# Altium schematic symbol library WE-TCI.SchLib: 44 symbols
Pins are listed as number, name and electrical type; pins without a type are passive.

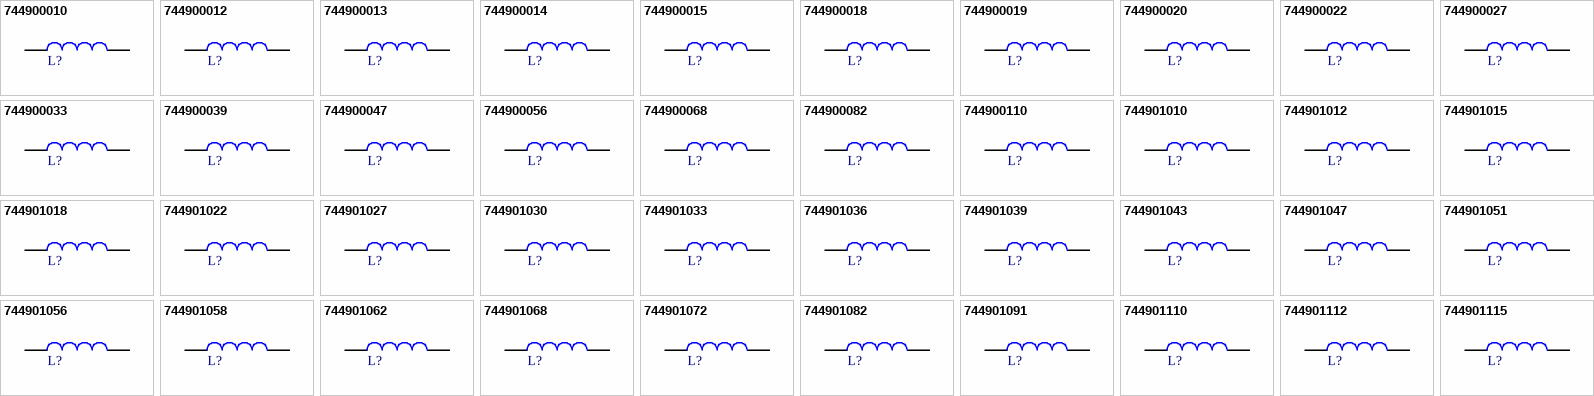
[diagram p0: symbols 744900010 to 744901115]

## 744900010
designator L?, comment 1nH  (value not drawn)
WE-TCI Thinfilm Chip Inductor, size 0201, 1nH, 300mA, 0.3Ω; Manufacturer Part Number: 744900010; Manufacturer: Wurth Elektronik; Case/Size Code: 0201; Inductance Tolerance: +/-0.2nH; Q Factor: 8; Self Resonant Frequency: 9GHz; Category: RF Inductors; Match Code: WE-TCI; ComponentLink1Description: Website Link; ComponentLink1URL: https://www.we-online.com/redexpert/article/744900010?ad; ComponentLink2Description: Datasheet Link; ComponentLink2URL: https://www.we-online.com/redexpert/spec/744900010?ad; Mount: Surface Mount; Operating Temperature Max: 125°C; Operating Temperature Min: -40°C; Packaging: Tape and Reel; Length: 0.6mm; Width: 0.3mm; Height: 0.23mm; DC Resistance Max: 0.3Ω; Inductance: 1nH; Rated Current: 300mA
footprint WE-TCI_0201
simulation model 0201_744900010_1n
pins: 1, 2

## 744900012
designator L?, comment 1.2nH  (value not drawn)
WE-TCI Thinfilm Chip Inductor, size 0201, 1.2nH, 300mA, 0.35Ω; Manufacturer Part Number: 744900012; Manufacturer: Wurth Elektronik; Case/Size Code: 0201; Inductance Tolerance: +/-0.2nH; Q Factor: 8; Self Resonant Frequency: 9GHz; Category: RF Inductors; Match Code: WE-TCI; ComponentLink1Description: Website Link; ComponentLink1URL: https://www.we-online.com/redexpert/article/744900012?ad; ComponentLink2Description: Datasheet Link; ComponentLink2URL: https://www.we-online.com/redexpert/spec/744900012?ad; Mount: Surface Mount; Operating Temperature Max: 125°C; Operating Temperature Min: -40°C; Packaging: Tape and Reel; Length: 0.6mm; Width: 0.3mm; Height: 0.23mm; DC Resistance Max: 0.35Ω; Inductance: 1.2nH; Rated Current: 300mA
footprint WE-TCI_0201
simulation model 0201_744900012_1.2n
pins: 1, 2

## 744900013
designator L?, comment 1.3nH  (value not drawn)
WE-TCI Thinfilm Chip Inductor, size 0201, 1.3nH, 250mA, 0.45Ω; Manufacturer Part Number: 744900013; Manufacturer: Wurth Elektronik; Case/Size Code: 0201; Inductance Tolerance: +/-0.2nH; Q Factor: 8; Self Resonant Frequency: 9GHz; Category: RF Inductors; Match Code: WE-TCI; ComponentLink1Description: Website Link; ComponentLink1URL: https://www.we-online.com/redexpert/article/744900013?ad; ComponentLink2Description: Datasheet Link; ComponentLink2URL: https://www.we-online.com/redexpert/spec/744900013?ad; Mount: Surface Mount; Operating Temperature Max: 125°C; Operating Temperature Min: -40°C; Packaging: Tape and Reel; Length: 0.6mm; Width: 0.3mm; Height: 0.23mm; DC Resistance Max: 0.45Ω; Inductance: 1.3nH; Rated Current: 250mA
footprint WE-TCI_0201
simulation model 0201_744900013_1.3n
pins: 1, 2

## 744900014
designator L?, comment 1.4nH  (value not drawn)
WE-TCI Thinfilm Chip Inductor, size 0201, 1.4nH, 250mA, 0.45Ω; Manufacturer Part Number: 744900014; Manufacturer: Wurth Elektronik; Case/Size Code: 0201; Inductance Tolerance: +/-0.2nH; Q Factor: 8; Self Resonant Frequency: 9GHz; Category: RF Inductors; Match Code: WE-TCI; ComponentLink1Description: Website Link; ComponentLink1URL: https://www.we-online.com/redexpert/article/744900014?ad; ComponentLink2Description: Datasheet Link; ComponentLink2URL: https://www.we-online.com/redexpert/spec/744900014?ad; Mount: Surface Mount; Operating Temperature Max: 125°C; Operating Temperature Min: -40°C; Packaging: Tape and Reel; Length: 0.6mm; Width: 0.3mm; Height: 0.23mm; DC Resistance Max: 0.45Ω; Inductance: 1.4nH; Rated Current: 250mA
footprint WE-TCI_0201
simulation model 0201_744900014_1.4n
pins: 1, 2

## 744900015
designator L?, comment 1.5nH  (value not drawn)
WE-TCI Thinfilm Chip Inductor, size 0201, 1.5nH, 250mA, 0.45Ω; Manufacturer Part Number: 744900015; Manufacturer: Wurth Elektronik; Case/Size Code: 0201; Inductance Tolerance: +/-0.2nH; Q Factor: 8; Self Resonant Frequency: 9GHz; Category: RF Inductors; Match Code: WE-TCI; ComponentLink1Description: Website Link; ComponentLink1URL: https://www.we-online.com/redexpert/article/744900015?ad; ComponentLink2Description: Datasheet Link; ComponentLink2URL: https://www.we-online.com/redexpert/spec/744900015?ad; Mount: Surface Mount; Operating Temperature Max: 125°C; Operating Temperature Min: -40°C; Packaging: Tape and Reel; Length: 0.6mm; Width: 0.3mm; Height: 0.23mm; DC Resistance Max: 0.45Ω; Inductance: 1.5nH; Rated Current: 250mA
footprint WE-TCI_0201
simulation model 0201_744900015_1.5n
pins: 1, 2

## 744900018
designator L?, comment 1.8nH  (value not drawn)
WE-TCI Thinfilm Chip Inductor, size 0201, 1.8nH, 200mA, 0.55Ω; Manufacturer Part Number: 744900018; Manufacturer: Wurth Elektronik; Case/Size Code: 0201; Inductance Tolerance: +/-0.2nH; Q Factor: 8; Self Resonant Frequency: 9GHz; Category: RF Inductors; Match Code: WE-TCI; ComponentLink1Description: Website Link; ComponentLink1URL: https://www.we-online.com/redexpert/article/744900018?ad; ComponentLink2Description: Datasheet Link; ComponentLink2URL: https://www.we-online.com/redexpert/spec/744900018?ad; Mount: Surface Mount; Operating Temperature Max: 125°C; Operating Temperature Min: -40°C; Packaging: Tape and Reel; Length: 0.6mm; Width: 0.3mm; Height: 0.23mm; DC Resistance Max: 0.55Ω; Inductance: 1.8nH; Rated Current: 200mA
footprint WE-TCI_0201
simulation model 0201_744900018_1.8n
pins: 1, 2

## 744900019
designator L?, comment 1.9nH  (value not drawn)
WE-TCI Thinfilm Chip Inductor, size 0201, 1.9nH, 200mA, 0.55Ω; Manufacturer Part Number: 744900019; Manufacturer: Wurth Elektronik; Case/Size Code: 0201; Inductance Tolerance: +/-0.2nH; Q Factor: 8; Self Resonant Frequency: 9GHz; Category: RF Inductors; Match Code: WE-TCI; ComponentLink1Description: Website Link; ComponentLink1URL: https://www.we-online.com/redexpert/article/744900019?ad; ComponentLink2Description: Datasheet Link; ComponentLink2URL: https://www.we-online.com/redexpert/spec/744900019?ad; Mount: Surface Mount; Operating Temperature Max: 125°C; Operating Temperature Min: -40°C; Packaging: Tape and Reel; Length: 0.6mm; Width: 0.3mm; Height: 0.23mm; DC Resistance Max: 0.55Ω; Inductance: 1.9nH; Rated Current: 200mA
footprint WE-TCI_0201
simulation model 0201_744900019_1.9n
pins: 1, 2

## 744900020
designator L?, comment 2nH  (value not drawn)
WE-TCI Thinfilm Chip Inductor, size 0201, 2nH, 200mA, 0.7Ω; Manufacturer Part Number: 744900020; Manufacturer: Wurth Elektronik; Case/Size Code: 0201; Inductance Tolerance: +/-0.2nH; Q Factor: 8; Self Resonant Frequency: 8GHz; Category: RF Inductors; Match Code: WE-TCI; ComponentLink1Description: Website Link; ComponentLink1URL: https://www.we-online.com/redexpert/article/744900020?ad; ComponentLink2Description: Datasheet Link; ComponentLink2URL: https://www.we-online.com/redexpert/spec/744900020?ad; Mount: Surface Mount; Operating Temperature Max: 125°C; Operating Temperature Min: -40°C; Packaging: Tape and Reel; Length: 0.6mm; Width: 0.3mm; Height: 0.23mm; DC Resistance Max: 0.7Ω; Inductance: 2nH; Rated Current: 200mA
footprint WE-TCI_0201
simulation model 0201_744900020_2n
pins: 1, 2

## 744900022
designator L?, comment 2.2nH  (value not drawn)
WE-TCI Thinfilm Chip Inductor, size 0201, 2.2nH, 200mA, 0.7Ω; Manufacturer Part Number: 744900022; Manufacturer: Wurth Elektronik; Case/Size Code: 0201; Inductance Tolerance: +/-0.2nH; Q Factor: 8; Self Resonant Frequency: 8GHz; Category: RF Inductors; Match Code: WE-TCI; ComponentLink1Description: Website Link; ComponentLink1URL: https://www.we-online.com/redexpert/article/744900022?ad; ComponentLink2Description: Datasheet Link; ComponentLink2URL: https://www.we-online.com/redexpert/spec/744900022?ad; Mount: Surface Mount; Operating Temperature Max: 125°C; Operating Temperature Min: -40°C; Packaging: Tape and Reel; Length: 0.6mm; Width: 0.3mm; Height: 0.23mm; DC Resistance Max: 0.7Ω; Inductance: 2.2nH; Rated Current: 200mA
footprint WE-TCI_0201
simulation model 0201_744900022_2.2n
pins: 1, 2

## 744900027
designator L?, comment 2.7nH  (value not drawn)
WE-TCI Thinfilm Chip Inductor, size 0201, 2.7nH, 150mA, 0.8Ω; Manufacturer Part Number: 744900027; Manufacturer: Wurth Elektronik; Case/Size Code: 0201; Inductance Tolerance: +/-0.2nH; Q Factor: 8; Self Resonant Frequency: 8GHz; Category: RF Inductors; Match Code: WE-TCI; ComponentLink1Description: Website Link; ComponentLink1URL: https://www.we-online.com/redexpert/article/744900027?ad; ComponentLink2Description: Datasheet Link; ComponentLink2URL: https://www.we-online.com/redexpert/spec/744900027?ad; Mount: Surface Mount; Operating Temperature Max: 125°C; Operating Temperature Min: -40°C; Packaging: Tape and Reel; Length: 0.6mm; Width: 0.3mm; Height: 0.23mm; DC Resistance Max: 0.8Ω; Inductance: 2.7nH; Rated Current: 150mA
footprint WE-TCI_0201
simulation model 0201_744900027_2.7n
pins: 1, 2

## 744900033
designator L?, comment 3.3nH  (value not drawn)
WE-TCI Thinfilm Chip Inductor, size 0201, 3.3nH, 150mA, 1Ω; Manufacturer Part Number: 744900033; Manufacturer: Wurth Elektronik; Case/Size Code: 0201; Inductance Tolerance: +/-0.2nH; Q Factor: 8; Self Resonant Frequency: 6GHz; Category: RF Inductors; Match Code: WE-TCI; ComponentLink1Description: Website Link; ComponentLink1URL: https://www.we-online.com/redexpert/article/744900033?ad; ComponentLink2Description: Datasheet Link; ComponentLink2URL: https://www.we-online.com/redexpert/spec/744900033?ad; Mount: Surface Mount; Operating Temperature Max: 125°C; Operating Temperature Min: -40°C; Packaging: Tape and Reel; Length: 0.6mm; Width: 0.3mm; Height: 0.23mm; DC Resistance Max: 1Ω; Inductance: 3.3nH; Rated Current: 150mA
footprint WE-TCI_0201
simulation model 0201_744900033_3.3n
pins: 1, 2

## 744900039
designator L?, comment 3.9nH  (value not drawn)
WE-TCI Thinfilm Chip Inductor, size 0201, 3.9nH, 150mA, 1.2Ω; Manufacturer Part Number: 744900039; Manufacturer: Wurth Elektronik; Case/Size Code: 0201; Inductance Tolerance: +/-0.2nH; Q Factor: 8; Self Resonant Frequency: 6GHz; Category: RF Inductors; Match Code: WE-TCI; ComponentLink1Description: Website Link; ComponentLink1URL: https://www.we-online.com/redexpert/article/744900039?ad; ComponentLink2Description: Datasheet Link; ComponentLink2URL: https://www.we-online.com/redexpert/spec/744900039?ad; Mount: Surface Mount; Operating Temperature Max: 125°C; Operating Temperature Min: -40°C; Packaging: Tape and Reel; Length: 0.6mm; Width: 0.3mm; Height: 0.23mm; DC Resistance Max: 1.2Ω; Inductance: 3.9nH; Rated Current: 150mA
footprint WE-TCI_0201
simulation model 0201_744900039_3.9n
pins: 1, 2

## 744900047
designator L?, comment 4.7nH  (value not drawn)
WE-TCI Thinfilm Chip Inductor, size 0201, 4.7nH, 130mA, 1.4Ω; Manufacturer Part Number: 744900047; Manufacturer: Wurth Elektronik; Case/Size Code: 0201; Inductance Tolerance: +/-0.2nH; Q Factor: 8; Self Resonant Frequency: 6GHz; Category: RF Inductors; Match Code: WE-TCI; ComponentLink1Description: Website Link; ComponentLink1URL: https://www.we-online.com/redexpert/article/744900047?ad; ComponentLink2Description: Datasheet Link; ComponentLink2URL: https://www.we-online.com/redexpert/spec/744900047?ad; Mount: Surface Mount; Operating Temperature Max: 125°C; Operating Temperature Min: -40°C; Packaging: Tape and Reel; Length: 0.6mm; Width: 0.3mm; Height: 0.23mm; DC Resistance Max: 1.4Ω; Inductance: 4.7nH; Rated Current: 130mA
footprint WE-TCI_0201
simulation model 0201_744900047_4.7n
pins: 1, 2

## 744900056
designator L?, comment 5.6nH  (value not drawn)
WE-TCI Thinfilm Chip Inductor, size 0201, 5.6nH, 130mA, 1.8Ω; Manufacturer Part Number: 744900056; Manufacturer: Wurth Elektronik; Case/Size Code: 0201; Inductance Tolerance: +/-2%; Q Factor: 8; Self Resonant Frequency: 4GHz; Category: RF Inductors; Match Code: WE-TCI; ComponentLink1Description: Website Link; ComponentLink1URL: https://www.we-online.com/redexpert/article/744900056?ad; ComponentLink2Description: Datasheet Link; ComponentLink2URL: https://www.we-online.com/redexpert/spec/744900056?ad; Mount: Surface Mount; Operating Temperature Max: 125°C; Operating Temperature Min: -40°C; Packaging: Tape and Reel; Length: 0.6mm; Width: 0.3mm; Height: 0.23mm; DC Resistance Max: 1.8Ω; Inductance: 5.6nH; Rated Current: 130mA
footprint WE-TCI_0201
simulation model 0201_744900056_5.6n
pins: 1, 2

## 744900068
designator L?, comment 6.8nH  (value not drawn)
WE-TCI Thinfilm Chip Inductor, size 0201, 6.8nH, 110mA, 2.3Ω; Manufacturer Part Number: 744900068; Manufacturer: Wurth Elektronik; Case/Size Code: 0201; Inductance Tolerance: +/-2%; Q Factor: 8; Self Resonant Frequency: 4GHz; Category: RF Inductors; Match Code: WE-TCI; ComponentLink1Description: Website Link; ComponentLink1URL: https://www.we-online.com/redexpert/article/744900068?ad; ComponentLink2Description: Datasheet Link; ComponentLink2URL: https://www.we-online.com/redexpert/spec/744900068?ad; Mount: Surface Mount; Operating Temperature Max: 125°C; Operating Temperature Min: -40°C; Packaging: Tape and Reel; Length: 0.6mm; Width: 0.3mm; Height: 0.23mm; DC Resistance Max: 2.3Ω; Inductance: 6.8nH; Rated Current: 110mA
footprint WE-TCI_0201
simulation model 0201_744900068_6.8n
pins: 1, 2

## 744900082
designator L?, comment 8.2nH  (value not drawn)
WE-TCI Thinfilm Chip Inductor, size 0201, 8.2nH, 110mA, 3Ω; Manufacturer Part Number: 744900082; Manufacturer: Wurth Elektronik; Case/Size Code: 0201; Inductance Tolerance: +/-2%; Q Factor: 8; Self Resonant Frequency: 3GHz; Category: RF Inductors; Match Code: WE-TCI; ComponentLink1Description: Website Link; ComponentLink1URL: https://www.we-online.com/redexpert/article/744900082?ad; ComponentLink2Description: Datasheet Link; ComponentLink2URL: https://www.we-online.com/redexpert/spec/744900082?ad; Mount: Surface Mount; Operating Temperature Max: 125°C; Operating Temperature Min: -40°C; Packaging: Tape and Reel; Length: 0.6mm; Width: 0.3mm; Height: 0.23mm; DC Resistance Max: 3Ω; Inductance: 8.2nH; Rated Current: 110mA
footprint WE-TCI_0201
simulation model 0201_744900082_8.2n
pins: 1, 2

## 744900110
designator L?, comment 10nH  (value not drawn)
WE-TCI Thinfilm Chip Inductor, size 0201, 10nH, 80mA, 3.5Ω; Manufacturer Part Number: 744900110; Manufacturer: Wurth Elektronik; Case/Size Code: 0201; Inductance Tolerance: +/-0.2%; Q Factor: 8; Self Resonant Frequency: 2GHz; Category: RF Inductors; Match Code: WE-TCI; ComponentLink1Description: Website Link; ComponentLink1URL: https://www.we-online.com/redexpert/article/744900110?ad; ComponentLink2Description: Datasheet Link; ComponentLink2URL: https://www.we-online.com/redexpert/spec/744900110?ad; Mount: Surface Mount; Operating Temperature Max: 125°C; Operating Temperature Min: -40°C; Packaging: Tape and Reel; Length: 0.6mm; Width: 0.3mm; Height: 0.23mm; DC Resistance Max: 3.5Ω; Inductance: 10nH; Rated Current: 80mA
footprint WE-TCI_0201
simulation model 0201_744900110_10n
pins: 1, 2

## 744901010
designator L?, comment 1nH  (value not drawn)
WE-TCI Thinfilm Chip Inductor, size 0402, 1nH, 700mA, 0.1Ω; Manufacturer Part Number: 744901010; Manufacturer: Wurth Elektronik; Case/Size Code: 0402; Inductance Tolerance: +/-0.1nH; Q Factor: 13; Self Resonant Frequency: 12GHz; Category: RF Inductors; Match Code: WE-TCI; ComponentLink1Description: Website Link; ComponentLink1URL: https://www.we-online.com/redexpert/article/744901010?ad; ComponentLink2Description: Datasheet Link; ComponentLink2URL: https://www.we-online.com/redexpert/spec/744901010?ad; Mount: Surface Mount; Operating Temperature Max: 125°C; Operating Temperature Min: -40°C; Packaging: Tape and Reel; Length: 1mm; Width: 0.5mm; Height: 0.32mm; DC Resistance Max: 0.1Ω; Inductance: 1nH; Rated Current: 700mA
footprint WE-TCI_0402
simulation model 0402_744901010_1n
pins: 1, 2

## 744901012
designator L?, comment 1.2nH  (value not drawn)
WE-TCI Thinfilm Chip Inductor, size 0402, 1.2nH, 700mA, 0.1Ω; Manufacturer Part Number: 744901012; Manufacturer: Wurth Elektronik; Case/Size Code: 0402; Inductance Tolerance: +/-0.1nH; Q Factor: 13; Self Resonant Frequency: 12GHz; Category: RF Inductors; Match Code: WE-TCI; ComponentLink1Description: Website Link; ComponentLink1URL: https://www.we-online.com/redexpert/article/744901012?ad; ComponentLink2Description: Datasheet Link; ComponentLink2URL: https://www.we-online.com/redexpert/spec/744901012?ad; Mount: Surface Mount; Operating Temperature Max: 125°C; Operating Temperature Min: -40°C; Packaging: Tape and Reel; Length: 1mm; Width: 0.5mm; Height: 0.32mm; DC Resistance Max: 0.1Ω; Inductance: 1.2nH; Rated Current: 700mA
footprint WE-TCI_0402
simulation model 0402_744901012_1.2n
pins: 1, 2

## 744901015
designator L?, comment 1.5nH  (value not drawn)
WE-TCI Thinfilm Chip Inductor, size 0402, 1.5nH, 700mA, 0.2Ω; Manufacturer Part Number: 744901015; Manufacturer: Wurth Elektronik; Case/Size Code: 0402; Inductance Tolerance: +/-0.1nH; Q Factor: 13; Self Resonant Frequency: 10GHz; Category: RF Inductors; Match Code: WE-TCI; ComponentLink1Description: Website Link; ComponentLink1URL: https://www.we-online.com/redexpert/article/744901015?ad; ComponentLink2Description: Datasheet Link; ComponentLink2URL: https://www.we-online.com/redexpert/spec/744901015?ad; Mount: Surface Mount; Operating Temperature Max: 125°C; Operating Temperature Min: -40°C; Packaging: Tape and Reel; Length: 1mm; Width: 0.5mm; Height: 0.32mm; DC Resistance Max: 0.2Ω; Inductance: 1.5nH; Rated Current: 700mA
footprint WE-TCI_0402
simulation model 0402_744901015_1.5n
pins: 1, 2

## 744901018
designator L?, comment 1.8nH  (value not drawn)
WE-TCI Thinfilm Chip Inductor, size 0402, 1.8nH, 560mA, 0.2Ω; Manufacturer Part Number: 744901018; Manufacturer: Wurth Elektronik; Case/Size Code: 0402; Inductance Tolerance: +/-0.1nH; Q Factor: 13; Self Resonant Frequency: 10GHz; Category: RF Inductors; Match Code: WE-TCI; ComponentLink1Description: Website Link; ComponentLink1URL: https://www.we-online.com/redexpert/article/744901018?ad; ComponentLink2Description: Datasheet Link; ComponentLink2URL: https://www.we-online.com/redexpert/spec/744901018?ad; Mount: Surface Mount; Operating Temperature Max: 125°C; Operating Temperature Min: -40°C; Packaging: Tape and Reel; Length: 1mm; Width: 0.5mm; Height: 0.32mm; DC Resistance Max: 0.2Ω; Inductance: 1.8nH; Rated Current: 560mA
footprint WE-TCI_0402
simulation model 0402_744901018_1.8n
pins: 1, 2

## 744901022
designator L?, comment 2.2nH  (value not drawn)
WE-TCI Thinfilm Chip Inductor, size 0402, 2.2nH, 440mA, 0.3Ω; Manufacturer Part Number: 744901022; Manufacturer: Wurth Elektronik; Case/Size Code: 0402; Inductance Tolerance: +/-0.1nH; Q Factor: 13; Self Resonant Frequency: 8GHz; Category: RF Inductors; Match Code: WE-TCI; ComponentLink1Description: Website Link; ComponentLink1URL: https://www.we-online.com/redexpert/article/744901022?ad; ComponentLink2Description: Datasheet Link; ComponentLink2URL: https://www.we-online.com/redexpert/spec/744901022?ad; Mount: Surface Mount; Operating Temperature Max: 125°C; Operating Temperature Min: -40°C; Packaging: Tape and Reel; Length: 1mm; Width: 0.5mm; Height: 0.32mm; DC Resistance Max: 0.3Ω; Inductance: 2.2nH; Rated Current: 440mA
footprint WE-TCI_0402
simulation model 0402_744901022_2.2n
pins: 1, 2

## 744901027
designator L?, comment 2.7nH  (value not drawn)
WE-TCI Thinfilm Chip Inductor, size 0402, 2.7nH, 440mA, 0.3Ω; Manufacturer Part Number: 744901027; Manufacturer: Wurth Elektronik; Case/Size Code: 0402; Inductance Tolerance: +/-0.1nH; Q Factor: 13; Self Resonant Frequency: 8GHz; Category: RF Inductors; Match Code: WE-TCI; ComponentLink1Description: Website Link; ComponentLink1URL: https://www.we-online.com/redexpert/article/744901027?ad; ComponentLink2Description: Datasheet Link; ComponentLink2URL: https://www.we-online.com/redexpert/spec/744901027?ad; Mount: Surface Mount; Operating Temperature Max: 125°C; Operating Temperature Min: -40°C; Packaging: Tape and Reel; Length: 1mm; Width: 0.5mm; Height: 0.32mm; DC Resistance Max: 0.3Ω; Inductance: 2.7nH; Rated Current: 440mA
footprint WE-TCI_0402
simulation model 0402_744901027_2.7n
pins: 1, 2

## 744901030
designator L?, comment 3nH  (value not drawn)
WE-TCI Thinfilm Chip Inductor, size 0402, 3nH, 380mA, 0.45Ω; Manufacturer Part Number: 744901030; Manufacturer: Wurth Elektronik; Case/Size Code: 0402; Inductance Tolerance: +/-0.1nH; Q Factor: 13; Self Resonant Frequency: 6GHz; Category: RF Inductors; Match Code: WE-TCI; ComponentLink1Description: Website Link; ComponentLink1URL: https://www.we-online.com/redexpert/article/744901030?ad; ComponentLink2Description: Datasheet Link; ComponentLink2URL: https://www.we-online.com/redexpert/spec/744901030?ad; Mount: Surface Mount; Operating Temperature Max: 125°C; Operating Temperature Min: -40°C; Packaging: Tape and Reel; Length: 1mm; Width: 0.5mm; Height: 0.32mm; DC Resistance Max: 0.45Ω; Inductance: 3nH; Rated Current: 380mA
footprint WE-TCI_0402
simulation model 0402_744901030_3n
pins: 1, 2

## 744901033
designator L?, comment 3.3nH  (value not drawn)
WE-TCI Thinfilm Chip Inductor, size 0402, 3.3nH, 380mA, 0.4Ω; Manufacturer Part Number: 744901033; Manufacturer: Wurth Elektronik; Case/Size Code: 0402; Inductance Tolerance: +/-0.1nH; Q Factor: 13; Self Resonant Frequency: 6GHz; Category: RF Inductors; Match Code: WE-TCI; ComponentLink1Description: Website Link; ComponentLink1URL: https://www.we-online.com/redexpert/article/744901033?ad; ComponentLink2Description: Datasheet Link; ComponentLink2URL: https://www.we-online.com/redexpert/spec/744901033?ad; Mount: Surface Mount; Operating Temperature Max: 125°C; Operating Temperature Min: -40°C; Packaging: Tape and Reel; Length: 1mm; Width: 0.5mm; Height: 0.32mm; DC Resistance Max: 0.4Ω; Inductance: 3.3nH; Rated Current: 380mA
footprint WE-TCI_0402
simulation model 0402_744901033_3.3n
pins: 1, 2

## 744901036
designator L?, comment 3.6nH  (value not drawn)
WE-TCI Thinfilm Chip Inductor, size 0402, 3.6nH, 380mA, 0.55Ω; Manufacturer Part Number: 744901036; Manufacturer: Wurth Elektronik; Case/Size Code: 0402; Inductance Tolerance: +/-0.1nH; Q Factor: 13; Self Resonant Frequency: 6GHz; Category: RF Inductors; Match Code: WE-TCI; ComponentLink1Description: Website Link; ComponentLink1URL: https://www.we-online.com/redexpert/article/744901036?ad; ComponentLink2Description: Datasheet Link; ComponentLink2URL: https://www.we-online.com/redexpert/spec/744901036?ad; Mount: Surface Mount; Operating Temperature Max: 125°C; Operating Temperature Min: -40°C; Packaging: Tape and Reel; Length: 1mm; Width: 0.5mm; Height: 0.32mm; DC Resistance Max: 0.55Ω; Inductance: 3.6nH; Rated Current: 380mA
footprint WE-TCI_0402
simulation model 0402_744901036_3.6n
pins: 1, 2

## 744901039
designator L?, comment 3.9nH  (value not drawn)
WE-TCI Thinfilm Chip Inductor, size 0402, 3.9nH, 340mA, 0.5Ω; Manufacturer Part Number: 744901039; Manufacturer: Wurth Elektronik; Case/Size Code: 0402; Inductance Tolerance: +/-0.1nH; Q Factor: 13; Self Resonant Frequency: 6GHz; Category: RF Inductors; Match Code: WE-TCI; ComponentLink1Description: Website Link; ComponentLink1URL: https://www.we-online.com/redexpert/article/744901039?ad; ComponentLink2Description: Datasheet Link; ComponentLink2URL: https://www.we-online.com/redexpert/spec/744901039?ad; Mount: Surface Mount; Operating Temperature Max: 125°C; Operating Temperature Min: -40°C; Packaging: Tape and Reel; Length: 1mm; Width: 0.5mm; Height: 0.32mm; DC Resistance Max: 0.5Ω; Inductance: 3.9nH; Rated Current: 340mA
footprint WE-TCI_0402
simulation model 0402_744901039_3.9n
pins: 1, 2

## 744901043
designator L?, comment 4.3nH  (value not drawn)
WE-TCI Thinfilm Chip Inductor, size 0402, 4.3nH, 320mA, 0.65Ω; Manufacturer Part Number: 744901043; Manufacturer: Wurth Elektronik; Case/Size Code: 0402; Inductance Tolerance: +/-0.1nH; Q Factor: 13; Self Resonant Frequency: 6GHz; Category: RF Inductors; Match Code: WE-TCI; ComponentLink1Description: Website Link; ComponentLink1URL: https://www.we-online.com/redexpert/article/744901043?ad; ComponentLink2Description: Datasheet Link; ComponentLink2URL: https://www.we-online.com/redexpert/spec/744901043?ad; Mount: Surface Mount; Operating Temperature Max: 125°C; Operating Temperature Min: -40°C; Packaging: Tape and Reel; Length: 1mm; Width: 0.5mm; Height: 0.32mm; DC Resistance Max: 0.65Ω; Inductance: 4.3nH; Rated Current: 320mA
footprint WE-TCI_0402
simulation model 0402_744901043_4.3n
pins: 1, 2

## 744901047
designator L?, comment 4.7nH  (value not drawn)
WE-TCI Thinfilm Chip Inductor, size 0402, 4.7nH, 320mA, 0.6Ω; Manufacturer Part Number: 744901047; Manufacturer: Wurth Elektronik; Case/Size Code: 0402; Inductance Tolerance: +/-0.1nH; Q Factor: 13; Self Resonant Frequency: 6GHz; Category: RF Inductors; Match Code: WE-TCI; ComponentLink1Description: Website Link; ComponentLink1URL: https://www.we-online.com/redexpert/article/744901047?ad; ComponentLink2Description: Datasheet Link; ComponentLink2URL: https://www.we-online.com/redexpert/spec/744901047?ad; Mount: Surface Mount; Operating Temperature Max: 125°C; Operating Temperature Min: -40°C; Packaging: Tape and Reel; Length: 1mm; Width: 0.5mm; Height: 0.32mm; DC Resistance Max: 0.6Ω; Inductance: 4.7nH; Rated Current: 320mA
footprint WE-TCI_0402
simulation model 0402_744901047_4.7n
pins: 1, 2

## 744901051
designator L?, comment 5.1nH  (value not drawn)
WE-TCI Thinfilm Chip Inductor, size 0402, 5.1nH, 300mA, 0.75Ω; Manufacturer Part Number: 744901051; Manufacturer: Wurth Elektronik; Case/Size Code: 0402; Inductance Tolerance: +/-0.1nH; Q Factor: 13; Self Resonant Frequency: 6GHz; Category: RF Inductors; Match Code: WE-TCI; ComponentLink1Description: Website Link; ComponentLink1URL: https://www.we-online.com/redexpert/article/744901051?ad; ComponentLink2Description: Datasheet Link; ComponentLink2URL: https://www.we-online.com/redexpert/spec/744901051?ad; Mount: Surface Mount; Operating Temperature Max: 125°C; Operating Temperature Min: -40°C; Packaging: Tape and Reel; Length: 1mm; Width: 0.5mm; Height: 0.32mm; DC Resistance Max: 0.75Ω; Inductance: 5.1nH; Rated Current: 300mA
footprint WE-TCI_0402
simulation model 0402_744901051_5.1n
pins: 1, 2

## 744901056
designator L?, comment 5.6nH  (value not drawn)
WE-TCI Thinfilm Chip Inductor, size 0402, 5.6nH, 280mA, 0.7Ω; Manufacturer Part Number: 744901056; Manufacturer: Wurth Elektronik; Case/Size Code: 0402; Inductance Tolerance: +/-0.1nH; Q Factor: 13; Self Resonant Frequency: 6GHz; Category: RF Inductors; Match Code: WE-TCI; ComponentLink1Description: Website Link; ComponentLink1URL: https://www.we-online.com/redexpert/article/744901056?ad; ComponentLink2Description: Datasheet Link; ComponentLink2URL: https://www.we-online.com/redexpert/spec/744901056?ad; Mount: Surface Mount; Operating Temperature Max: 125°C; Operating Temperature Min: -40°C; Packaging: Tape and Reel; Length: 1mm; Width: 0.5mm; Height: 0.32mm; DC Resistance Max: 0.7Ω; Inductance: 5.6nH; Rated Current: 280mA
footprint WE-TCI_0402
simulation model 0402_744901056_5.6n
pins: 1, 2

## 744901058
designator L?, comment 5.8nH  (value not drawn)
WE-TCI Thinfilm Chip Inductor, size 0402, 5.8nH, 280mA, 0.85Ω; Manufacturer Part Number: 744901058; Manufacturer: Wurth Elektronik; Case/Size Code: 0402; Inductance Tolerance: +/-0.1nH; Q Factor: 13; Self Resonant Frequency: 6GHz; Category: RF Inductors; Match Code: WE-TCI; ComponentLink1Description: Website Link; ComponentLink1URL: https://www.we-online.com/redexpert/article/744901058?ad; ComponentLink2Description: Datasheet Link; ComponentLink2URL: https://www.we-online.com/redexpert/spec/744901058?ad; Mount: Surface Mount; Operating Temperature Max: 125°C; Operating Temperature Min: -40°C; Packaging: Tape and Reel; Length: 1mm; Width: 0.5mm; Height: 0.32mm; DC Resistance Max: 0.85Ω; Inductance: 5.8nH; Rated Current: 280mA
footprint WE-TCI_0402
simulation model 0402_744901058_5.8n
pins: 1, 2

## 744901062
designator L?, comment 6.2nH  (value not drawn)
WE-TCI Thinfilm Chip Inductor, size 0402, 6.2nH, 270mA, 0.9Ω; Manufacturer Part Number: 744901062; Manufacturer: Wurth Elektronik; Case/Size Code: 0402; Inductance Tolerance: +/-0.1nH; Q Factor: 13; Self Resonant Frequency: 6GHz; Category: RF Inductors; Match Code: WE-TCI; ComponentLink1Description: Website Link; ComponentLink1URL: https://www.we-online.com/redexpert/article/744901062?ad; ComponentLink2Description: Datasheet Link; ComponentLink2URL: https://www.we-online.com/redexpert/spec/744901062?ad; Mount: Surface Mount; Operating Temperature Max: 125°C; Operating Temperature Min: -40°C; Packaging: Tape and Reel; Length: 1mm; Width: 0.5mm; Height: 0.32mm; DC Resistance Max: 0.9Ω; Inductance: 6.2nH; Rated Current: 270mA
footprint WE-TCI_0402
simulation model 0402_744901062_6.2n
pins: 1, 2

## 744901068
designator L?, comment 6.8nH  (value not drawn)
WE-TCI Thinfilm Chip Inductor, size 0402, 6.8nH, 260mA, 0.9Ω; Manufacturer Part Number: 744901068; Manufacturer: Wurth Elektronik; Case/Size Code: 0402; Inductance Tolerance: +/-0.1nH; Q Factor: 13; Self Resonant Frequency: 6GHz; Category: RF Inductors; Match Code: WE-TCI; ComponentLink1Description: Website Link; ComponentLink1URL: https://www.we-online.com/redexpert/article/744901068?ad; ComponentLink2Description: Datasheet Link; ComponentLink2URL: https://www.we-online.com/redexpert/spec/744901068?ad; Mount: Surface Mount; Operating Temperature Max: 125°C; Operating Temperature Min: -40°C; Packaging: Tape and Reel; Length: 1mm; Width: 0.5mm; Height: 0.32mm; DC Resistance Max: 0.9Ω; Inductance: 6.8nH; Rated Current: 260mA
footprint WE-TCI_0402
simulation model 0402_744901068_6.8n
pins: 1, 2

## 744901072
designator L?, comment 7.2nH  (value not drawn)
WE-TCI Thinfilm Chip Inductor, size 0402, 7.2nH, 260mA, 1.05Ω; Manufacturer Part Number: 744901072; Manufacturer: Wurth Elektronik; Case/Size Code: 0402; Inductance Tolerance: +/-0.1nH; Q Factor: 13; Self Resonant Frequency: 6GHz; Category: RF Inductors; Match Code: WE-TCI; ComponentLink1Description: Website Link; ComponentLink1URL: https://www.we-online.com/redexpert/article/744901072?ad; ComponentLink2Description: Datasheet Link; ComponentLink2URL: https://www.we-online.com/redexpert/spec/744901072?ad; Mount: Surface Mount; Operating Temperature Max: 125°C; Operating Temperature Min: -40°C; Packaging: Tape and Reel; Length: 1mm; Width: 0.5mm; Height: 0.32mm; DC Resistance Max: 1.05Ω; Inductance: 7.2nH; Rated Current: 260mA
footprint WE-TCI_0402
simulation model 0402_744901072_7.2n
pins: 1, 2

## 744901082
designator L?, comment 8.2nH  (value not drawn)
WE-TCI Thinfilm Chip Inductor, size 0402, 8.2nH, 220mA, 1.1Ω; Manufacturer Part Number: 744901082; Manufacturer: Wurth Elektronik; Case/Size Code: 0402; Inductance Tolerance: +/-0.1nH; Q Factor: 13; Self Resonant Frequency: 5GHz; Category: RF Inductors; Match Code: WE-TCI; ComponentLink1Description: Website Link; ComponentLink1URL: https://www.we-online.com/redexpert/article/744901082?ad; ComponentLink2Description: Datasheet Link; ComponentLink2URL: https://www.we-online.com/redexpert/spec/744901082?ad; Mount: Surface Mount; Operating Temperature Max: 125°C; Operating Temperature Min: -40°C; Packaging: Tape and Reel; Length: 1mm; Width: 0.5mm; Height: 0.32mm; DC Resistance Max: 1.1Ω; Inductance: 8.2nH; Rated Current: 220mA
footprint WE-TCI_0402
simulation model 0402_744901082_8.2n
pins: 1, 2

## 744901091
designator L?, comment 9.1nH  (value not drawn)
WE-TCI Thinfilm Chip Inductor, size 0402, 9.1nH, 220mA, 1.25Ω; Manufacturer Part Number: 744901091; Manufacturer: Wurth Elektronik; Case/Size Code: 0402; Inductance Tolerance: +/-0.1nH; Q Factor: 13; Self Resonant Frequency: 5.5GHz; Category: RF Inductors; Match Code: WE-TCI; ComponentLink1Description: Website Link; ComponentLink1URL: https://www.we-online.com/redexpert/article/744901091?ad; ComponentLink2Description: Datasheet Link; ComponentLink2URL: https://www.we-online.com/redexpert/spec/744901091?ad; Mount: Surface Mount; Operating Temperature Max: 125°C; Operating Temperature Min: -40°C; Packaging: Tape and Reel; Length: 1mm; Width: 0.5mm; Height: 0.32mm; DC Resistance Max: 1.25Ω; Inductance: 9.1nH; Rated Current: 220mA
footprint WE-TCI_0402
simulation model 0402_744901091_9.1n
pins: 1, 2

## 744901110
designator L?, comment 10nH  (value not drawn)
WE-TCI Thinfilm Chip Inductor, size 0402, 10nH, 200mA, 1.3Ω; Manufacturer Part Number: 744901110; Manufacturer: Wurth Elektronik; Case/Size Code: 0402; Inductance Tolerance: +/-2%; Q Factor: 13; Self Resonant Frequency: 4.5GHz; Category: RF Inductors; Match Code: WE-TCI; ComponentLink1Description: Website Link; ComponentLink1URL: https://www.we-online.com/redexpert/article/744901110?ad; ComponentLink2Description: Datasheet Link; ComponentLink2URL: https://www.we-online.com/redexpert/spec/744901110?ad; Mount: Surface Mount; Operating Temperature Max: 125°C; Operating Temperature Min: -40°C; Packaging: Tape and Reel; Length: 1mm; Width: 0.5mm; Height: 0.32mm; DC Resistance Max: 1.3Ω; Inductance: 10nH; Rated Current: 200mA
footprint WE-TCI_0402
simulation model 0402_744901110_10n
pins: 1, 2

## 744901112
designator L?, comment 12nH  (value not drawn)
WE-TCI Thinfilm Chip Inductor, size 0402, 12nH, 180mA, 1.6Ω; Manufacturer Part Number: 744901112; Manufacturer: Wurth Elektronik; Case/Size Code: 0402; Inductance Tolerance: +/-2%; Q Factor: 13; Self Resonant Frequency: 3.7GHz; Category: RF Inductors; Match Code: WE-TCI; ComponentLink1Description: Website Link; ComponentLink1URL: https://www.we-online.com/redexpert/article/744901112?ad; ComponentLink2Description: Datasheet Link; ComponentLink2URL: https://www.we-online.com/redexpert/spec/744901112?ad; Mount: Surface Mount; Operating Temperature Max: 125°C; Operating Temperature Min: -40°C; Packaging: Tape and Reel; Length: 1mm; Width: 0.5mm; Height: 0.32mm; DC Resistance Max: 1.6Ω; Inductance: 12nH; Rated Current: 180mA
footprint WE-TCI_0402
simulation model 0402_744901112_12n
pins: 1, 2

## 744901115
designator L?, comment 15nH  (value not drawn)
WE-TCI Thinfilm Chip Inductor, size 0402, 15nH, 130mA, 1.8Ω; Manufacturer Part Number: 744901115; Manufacturer: Wurth Elektronik; Case/Size Code: 0402; Inductance Tolerance: +/-2%; Q Factor: 13; Self Resonant Frequency: 3.3GHz; Category: RF Inductors; Match Code: WE-TCI; ComponentLink1Description: Website Link; ComponentLink1URL: https://www.we-online.com/redexpert/article/744901115?ad; ComponentLink2Description: Datasheet Link; ComponentLink2URL: https://www.we-online.com/redexpert/spec/744901115?ad; Mount: Surface Mount; Operating Temperature Max: 125°C; Operating Temperature Min: -40°C; Packaging: Tape and Reel; Length: 1mm; Width: 0.5mm; Height: 0.32mm; DC Resistance Max: 1.8Ω; Inductance: 15nH; Rated Current: 130mA
footprint WE-TCI_0402
simulation model 0402_744901115_15n
pins: 1, 2

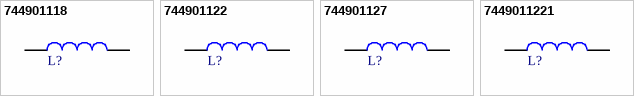
[diagram p1: symbols 744901118 to 7449011221]

## 744901118
designator L?, comment 18nH  (value not drawn)
WE-TCI Thinfilm Chip Inductor, size 0402, 18nH, 100mA, 2Ω; Manufacturer Part Number: 744901118; Manufacturer: Wurth Elektronik; Case/Size Code: 0402; Inductance Tolerance: +/-2%; Q Factor: 13; Self Resonant Frequency: 3.1GHz; Category: RF Inductors; Match Code: WE-TCI; ComponentLink1Description: Website Link; ComponentLink1URL: https://www.we-online.com/redexpert/article/744901118?ad; ComponentLink2Description: Datasheet Link; ComponentLink2URL: https://www.we-online.com/redexpert/spec/744901118?ad; Mount: Surface Mount; Operating Temperature Max: 125°C; Operating Temperature Min: -40°C; Packaging: Tape and Reel; Length: 1mm; Width: 0.5mm; Height: 0.32mm; DC Resistance Max: 2Ω; Inductance: 18nH; Rated Current: 100mA
footprint WE-TCI_0402
simulation model 0402_744901118_18n
pins: 1, 2

## 744901122
designator L?, comment 22nH  (value not drawn)
WE-TCI Thinfilm Chip Inductor, size 0402, 22nH, 90mA, 2.6Ω; Manufacturer Part Number: 744901122; Manufacturer: Wurth Elektronik; Case/Size Code: 0402; Inductance Tolerance: +/-2%; Q Factor: 13; Self Resonant Frequency: 2.8GHz; Category: RF Inductors; Match Code: WE-TCI; ComponentLink1Description: Website Link; ComponentLink1URL: https://www.we-online.com/redexpert/article/744901122?ad; ComponentLink2Description: Datasheet Link; ComponentLink2URL: https://www.we-online.com/redexpert/spec/744901122?ad; Mount: Surface Mount; Operating Temperature Max: 125°C; Operating Temperature Min: -40°C; Packaging: Tape and Reel; Length: 1mm; Width: 0.5mm; Height: 0.32mm; DC Resistance Max: 2.6Ω; Inductance: 22nH; Rated Current: 90mA
footprint WE-TCI_0402
simulation model 0402_744901122_22n
pins: 1, 2

## 744901127
designator L?, comment 27nH  (value not drawn)
WE-TCI Thinfilm Chip Inductor, size 0402, 27nH, 75mA, 3.25Ω; Manufacturer Part Number: 744901127; Manufacturer: Wurth Elektronik; Case/Size Code: 0402; Inductance Tolerance: +/-2%; Q Factor: 13; Self Resonant Frequency: 2.5GHz; Category: RF Inductors; Match Code: WE-TCI; ComponentLink1Description: Website Link; ComponentLink1URL: https://www.we-online.com/redexpert/article/744901127?ad; ComponentLink2Description: Datasheet Link; ComponentLink2URL: https://www.we-online.com/redexpert/spec/744901127?ad; Mount: Surface Mount; Operating Temperature Max: 125°C; Operating Temperature Min: -40°C; Packaging: Tape and Reel; Length: 1mm; Width: 0.5mm; Height: 0.32mm; DC Resistance Max: 3.25Ω; Inductance: 27nH; Rated Current: 75mA
footprint WE-TCI_0402
simulation model 0402_744901127_27n
pins: 1, 2

## 7449011221
designator L?, comment 22nH  (value not drawn)
WE-TCI Thinfilm Chip Inductor, size 0402, 22nH, 90mA, 2.6Ω; Manufacturer Part Number: 7449011221; Manufacturer: Wurth Elektronik; Case/Size Code: 0402; Inductance Tolerance: +/-1%; Q Factor: 13; Self Resonant Frequency: 0.0028GHz; Category: RF Inductors; Match Code: WE-TCI; ComponentLink1Description: Website Link; ComponentLink1URL: https://www.we-online.com/redexpert/article/7449011221?ad; ComponentLink2Description: Datasheet Link; ComponentLink2URL: https://www.we-online.com/redexpert/spec/7449011221?ad; Mount: Surface Mount; Operating Temperature Max: 125°C; Operating Temperature Min: -40°C; Packaging: Tape and Reel; Length: 1mm; Width: 0.5mm; Height: 0.32mm; DC Resistance Max: 2.6Ω; Inductance: 22nH; Rated Current: 90mA
footprint WE-TCI_0402
pins: 1, 2